# EAGLE library part MINI-SPOX_22035085 (library Mini-spox_22035085)
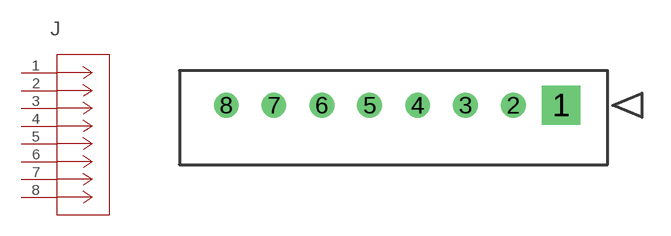
[diagram p0: symbol with the pads of CON_22035085_MOL; footprint CON_22035085_MOL]

Designator prefix J

## MINI-SPOX_22035085 (COPYRIGHT: Copyright (C) 2023 Ultra Librarian. All rights reserved.; MANUFACTURER_PART_NUMBER: 22035085; MFR_NAME: Molex Connector Corporation)  [CON_22035085_MOL]
1  1  pas
2  2  pas
3  3  pas
4  4  pas
5  5  pas
6  6  pas
7  7  pas
8  8  pas

## Footprint CON_22035085_MOL (pad centres in mm)
drill 0.787 pad 2.032 square: 1 0,0
drill 0.787 pad 1.27: 2 -2.489,0; 3 -5.004,0; 4 -7.493,0; 5 -10.008,0; 6 -12.497,0; 7 -15.011,0; 8 -17.501,0